# Altium footprint library MCP4561-103EMS.PcbLib: 3 footprints
Each footprint in its own frame and in the unit in brackets; x right, y up, seen from the top. Pads: shape width x height; smd on the part's side, far side on the other; paste and mask are expansions set on the pad; w line width, h text height; cw(c..) or ccw(c..) is an arc to the next point about the centre after c.
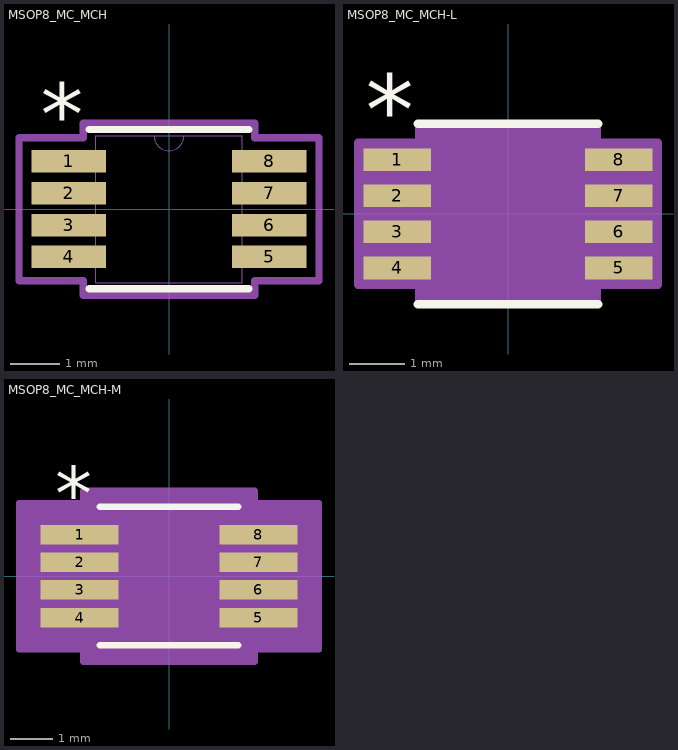
[diagram p0: the footprints below, top view; thin cyan lines are the x and y axes]

## MSOP8_MC_MCH [mil]
pads (8):
  rect 60x18 smd paste+0 mask+0: 1(-80.5,38.39) 2(-80.5,12.8) 3(-80.5,-12.8) 4(-80.5,-38.39) 5(80.5,-38.39) 6(80.5,-12.8) 7(80.5,12.8) 8(80.5,38.39)
Top Overlay:
  lines w6: -64,-64 64,-64 ; -64,64 64,64
  text "*" at -103,51.39 h50
Mechanical 13:
  lines w0: -12,59 ccw(c0,59) 12,59
  lines w1: -96.5,-46.39 -59,-46.39 -59,-30.39 -96.5,-30.39 -96.5,-46.39 ; -96.5,-20.8 -59,-20.8 -59,-4.8 -96.5,-4.8 -96.5,-20.8 ; -96.5,4.8 -59,4.8 -59,20.8 -96.5,20.8 -96.5,4.8 ; -96.5,30.39 -59,30.39 -59,46.39 -96.5,46.39 -96.5,30.39 ; -59,-59 -59,59 59,59 59,-59 -59,-59 ; 59,-46.39 96.5,-46.39 96.5,-30.39 59,-30.39 59,-46.39 ; 59,-20.8 96.5,-20.8 96.5,-4.8 59,-4.8 59,-20.8 ; 59,4.8 96.5,4.8 96.5,20.8 59,20.8 59,4.8 ; 59,30.39 96.5,30.39 96.5,46.39 59,46.39 59,30.39
  text "*" at -56.5,6 h50
Mechanical 15:
  lines w6: -120.5,-57.39 -69,-57.39 -69,-69 69,-69 69,-57.39 120.5,-57.39 120.5,57.39 69,57.39 69,69 -69,69 -69,57.39 -120.5,57.39 -120.5,-57.39
3D body "MSOP8_MC_MCH.step": height 43.11, standoff 0, extent -96.5,-59.02 96.5,59.02

## MSOP8_MC_MCH-L [mil]
pads (8):
  rect 48x16 smd paste+0 mask+0: 1(-78.5,38.39) 2(-78.5,12.8) 3(-78.5,-12.8) 4(-78.5,-38.39) 5(78.5,-38.39) 6(78.5,-12.8) 7(78.5,12.8) 8(78.5,38.39)
Top Overlay:
  lines w6: -64,-64 64,-64 ; -64,64 64,64
  text "*" at -101,49.39 h50
Mechanical 13:
  lines w0: -12,59 ccw(c0,59) 12,59
  lines w1: -96.5,-46.39 -96.5,-30.39 -59,-30.39 -59,-46.39 -96.5,-46.39 ; -96.5,-20.8 -96.5,-4.8 -59,-4.8 -59,-20.8 -96.5,-20.8 ; -96.5,4.8 -96.5,20.8 -59,20.8 -59,4.8 -96.5,4.8 ; -96.5,30.39 -96.5,46.39 -59,46.39 -59,30.39 -96.5,30.39 ; -59,-59 59,-59 59,59 -59,59 -59,-59 ; 59,-46.39 59,-30.39 96.5,-30.39 96.5,-46.39 59,-46.39 ; 59,-20.8 59,-4.8 96.5,-4.8 96.5,-20.8 59,-20.8 ; 59,4.8 59,20.8 96.5,20.8 96.5,4.8 59,4.8 ; 59,30.39 59,46.39 96.5,46.39 96.5,30.39 59,30.39
  text "*" at -56.5,6 h50
Mechanical 15:
  region: -63,-50.39 -106.5,-50.39 -106.5,50.39 -63,50.39 -63,63 63,63 63,50.39 106.5,50.39 106.5,-50.39 63,-50.39 63,-63 -63,-63
  lines w6: -106.5,-50.39 -106.5,50.39 -63,50.39 -63,63 63,63 63,50.39 106.5,50.39 106.5,-50.39 63,-50.39 63,-63 -63,-63 -63,-50.39 -106.5,-50.39
3D body "MSOP8_MC_MCH.step": height 43.11, standoff 0, extent -96.5,-59.02 96.5,59.02

## MSOP8_MC_MCH-M [mil]
pads (8):
  rect 72x18 smd paste+0 mask+0: 1(-82.5,38.39) 2(-82.5,12.8) 3(-82.5,-12.8) 4(-82.5,-38.39) 5(82.5,-38.39) 6(82.5,-12.8) 7(82.5,12.8) 8(82.5,38.39)
Top Overlay:
  lines w6: -64,-64 64,-64 ; -64,64 64,64
  text "*" at -105,51.39 h50
Mechanical 13:
  lines w0: -12,59 ccw(c0,59) 12,59
  lines w1: -96.5,-46.39 -59,-46.39 -59,-30.39 -96.5,-30.39 -96.5,-46.39 ; -96.5,-20.8 -59,-20.8 -59,-4.8 -96.5,-4.8 -96.5,-20.8 ; -96.5,4.8 -59,4.8 -59,20.8 -96.5,20.8 -96.5,4.8 ; -96.5,30.39 -59,30.39 -59,46.39 -96.5,46.39 -96.5,30.39 ; -59,-59 -59,59 59,59 59,-59 -59,-59 ; 59,-46.39 96.5,-46.39 96.5,-30.39 59,-30.39 59,-46.39 ; 59,-20.8 96.5,-20.8 96.5,-4.8 59,-4.8 59,-20.8 ; 59,4.8 96.5,4.8 96.5,20.8 59,20.8 59,4.8 ; 59,30.39 96.5,30.39 96.5,46.39 59,46.39 59,30.39
  text "*" at -56.5,6 h50
Mechanical 15:
  region: -79,-67.39 -138.5,-67.39 -138.5,67.39 -79,67.39 -79,79 79,79 79,67.39 138.5,67.39 138.5,-67.39 79,-67.39 79,-79 -79,-79
  lines w6: -138.5,-67.39 -79,-67.39 -79,-79 79,-79 79,-67.39 138.5,-67.39 138.5,67.39 79,67.39 79,79 -79,79 -79,67.39 -138.5,67.39 -138.5,-67.39
3D body "MSOP8_MC_MCH.step": height 43.11, standoff 0, extent -96.5,-59.02 96.5,59.02